# Altium schematic symbol library SCH - MCU - STM32 - ST MICROELECTRONICS STM32F446M(C-E)YX WLCSP81.SchLib: 1 symbol
Pins are listed as number, name and electrical type; pins without a type are passive.

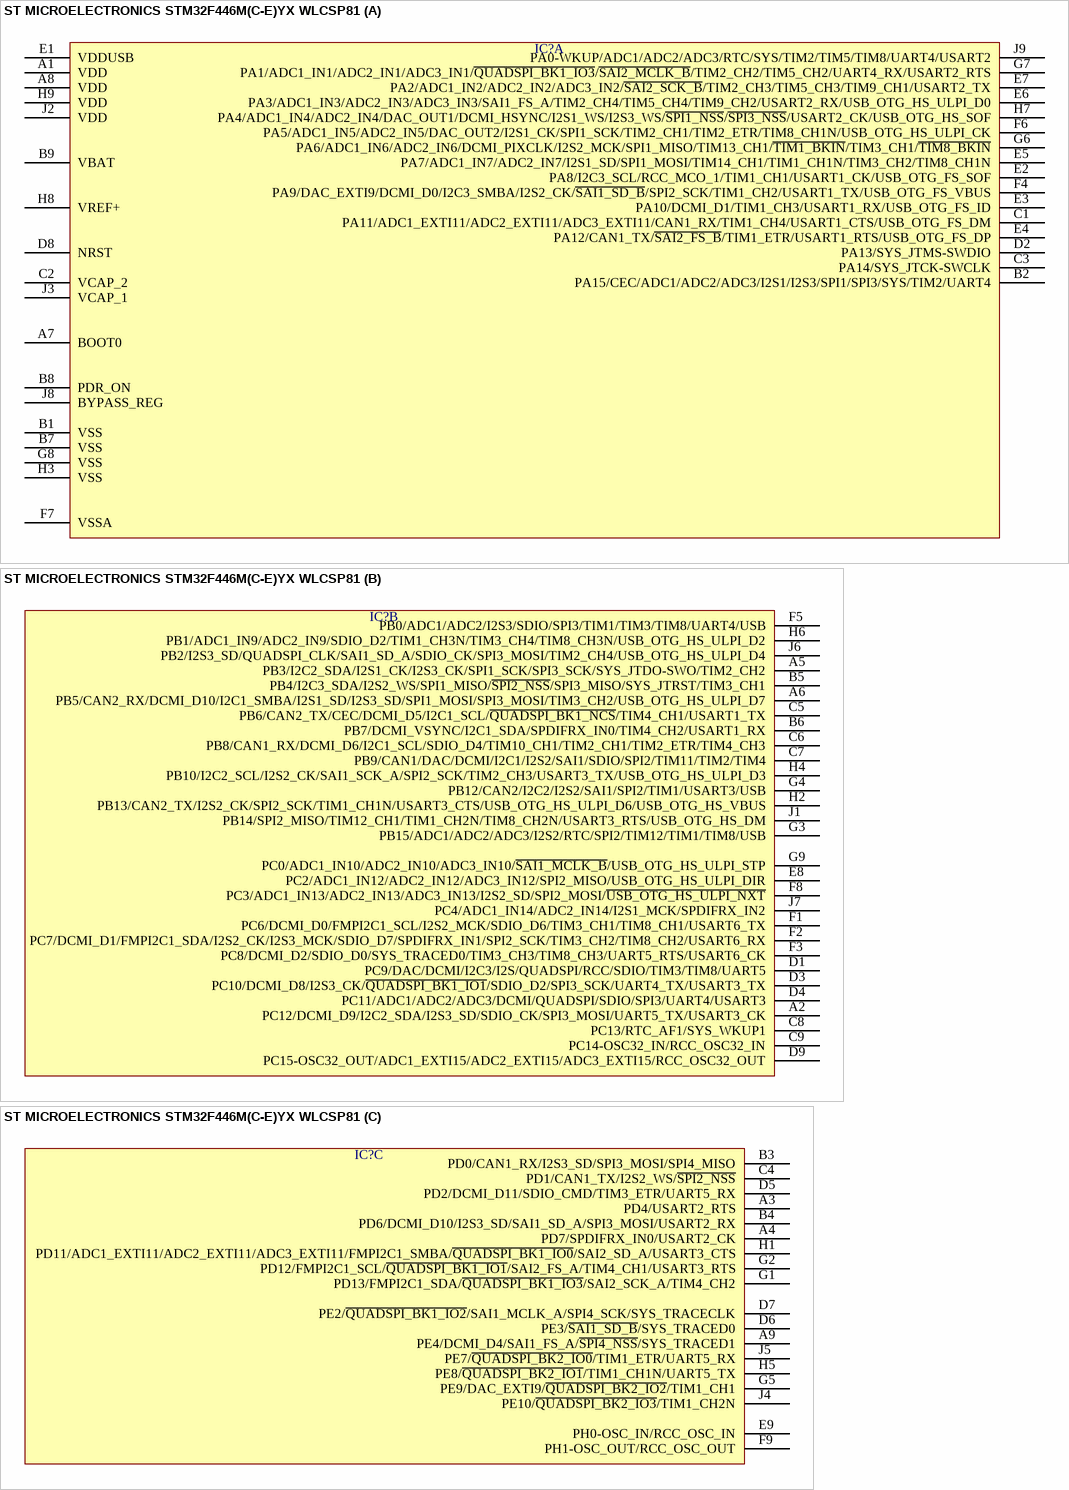
[diagram p0: symbol ST MICROELECTRONICS STM32F446M(C-E)YX WLCSP81]

## ST MICROELECTRONICS STM32F446M(C-E)YX WLCSP81
designator IC?  (value not drawn)
part A pins: A1 VDD, A7 BOOT0, A8 VDD, B1 VSS, B2 PA15/CEC/ADC1/ADC2/ADC3/I2S1/I2S3/SPI1/SPI3/SYS/TIM2/UART4, B7 VSS, B8 PDR_ON, B9 VBAT, C1 PA11/ADC1_EXTI11/ADC2_EXTI11/ADC3_EXTI11/CAN1_RX/TIM1_CH4/USART1_CTS/USB_OTG_FS_DM, C2 VCAP_2, C3 PA14/SYS_JTCK-SWCLK, D2 PA13/SYS_JTMS-SWDIO, D8 NRST, E1 VDDUSB, E2 PA8/I2C3_SCL/RCC_MCO_1/TIM1_CH1/USART1_CK/USB_OTG_FS_SOF, E3 PA10/DCMI_D1/TIM1_CH3/USART1_RX/USB_OTG_FS_ID, E4 PA12/CAN1_TX/~{SAI2_FS_B}/TIM1_ETR/USART1_RTS/USB_OTG_FS_DP, E5 PA7/ADC1_IN7/ADC2_IN7/I2S1_SD/SPI1_MOSI/TIM14_CH1/TIM1_CH1N/TIM3_CH2/TIM8_CH1N, E6 PA3/ADC1_IN3/ADC2_IN3/ADC3_IN3/SAI1_FS_A/TIM2_CH4/TIM5_CH4/TIM9_CH2/USART2_RX/USB_OTG_HS_ULPI_D0, E7 PA2/ADC1_IN2/ADC2_IN2/ADC3_IN2/~{SAI2_SCK_B}/TIM2_CH3/TIM5_CH3/TIM9_CH1/USART2_TX, F4 PA9/DAC_EXTI9/DCMI_D0/I2C3_SMBA/I2S2_CK/~{SAI1_SD_B}/SPI2_SCK/TIM1_CH2/USART1_TX/USB_OTG_FS_VBUS, F6 PA5/ADC1_IN5/ADC2_IN5/DAC_OUT2/I2S1_CK/SPI1_SCK/TIM2_CH1/TIM2_ETR/TIM8_CH1N/USB_OTG_HS_ULPI_CK, F7 VSSA, G6 PA6/ADC1_IN6/ADC2_IN6/DCMI_PIXCLK/I2S2_MCK/SPI1_MISO/TIM13_CH1/~{TIM1_BKIN}/TIM3_CH1/~{TIM8_BKIN}, G7 PA1/ADC1_IN1/ADC2_IN1/ADC3_IN1/~{QUADSPI_BK1_IO3}/~{SAI2_MCLK_B}/TIM2_CH2/TIM5_CH2/UART4_RX/USART2_RTS, G8 VSS, H3 VSS, H7 PA4/ADC1_IN4/ADC2_IN4/DAC_OUT1/DCMI_HSYNC/I2S1_WS/I2S3_WS/~{SPI1_NSS}/~{SPI3_NSS}/USART2_CK/USB_OTG_HS_SOF, H8 VREF+, H9 VDD, J2 VDD, J3 VCAP_1, J8 BYPASS_REG, J9 PA0-WKUP/ADC1/ADC2/ADC3/RTC/SYS/TIM2/TIM5/TIM8/UART4/USART2
part B pins: A2 PC12/DCMI_D9/I2C2_SDA/I2S3_SD/SDIO_CK/SPI3_MOSI/UART5_TX/USART3_CK, A5 PB3/I2C2_SDA/I2S1_CK/I2S3_CK/SPI1_SCK/SPI3_SCK/SYS_JTDO-SWO/TIM2_CH2, A6 PB5/CAN2_RX/DCMI_D10/I2C1_SMBA/I2S1_SD/I2S3_SD/SPI1_MOSI/SPI3_MOSI/TIM3_CH2/USB_OTG_HS_ULPI_D7, B5 PB4/I2C3_SDA/I2S2_WS/SPI1_MISO/~{SPI2_NSS}/SPI3_MISO/SYS_JTRST/TIM3_CH1, B6 PB7/DCMI_VSYNC/I2C1_SDA/SPDIFRX_IN0/TIM4_CH2/USART1_RX, C5 PB6/CAN2_TX/CEC/DCMI_D5/I2C1_SCL/~{QUADSPI_BK1_NCS}/TIM4_CH1/USART1_TX, C6 PB8/CAN1_RX/DCMI_D6/I2C1_SCL/SDIO_D4/TIM10_CH1/TIM2_CH1/TIM2_ETR/TIM4_CH3, C7 PB9/CAN1/DAC/DCMI/I2C1/I2S2/SAI1/SDIO/SPI2/TIM11/TIM2/TIM4, C8 PC13/RTC_AF1/SYS_WKUP1, C9 PC14-OSC32_IN/RCC_OSC32_IN, D1 PC9/DAC/DCMI/I2C3/I2S/QUADSPI/RCC/SDIO/TIM3/TIM8/UART5, D3 PC10/DCMI_D8/I2S3_CK/~{QUADSPI_BK1_IO1}/SDIO_D2/SPI3_SCK/UART4_TX/USART3_TX, D4 PC11/ADC1/ADC2/ADC3/DCMI/QUADSPI/SDIO/SPI3/UART4/USART3, D9 PC15-OSC32_OUT/ADC1_EXTI15/ADC2_EXTI15/ADC3_EXTI15/RCC_OSC32_OUT, E8 PC2/ADC1_IN12/ADC2_IN12/ADC3_IN12/SPI2_MISO/USB_OTG_HS_ULPI_DIR, F1 PC6/DCMI_D0/FMPI2C1_SCL/I2S2_MCK/SDIO_D6/TIM3_CH1/TIM8_CH1/USART6_TX, F2 PC7/DCMI_D1/FMPI2C1_SDA/I2S2_CK/I2S3_MCK/SDIO_D7/SPDIFRX_IN1/SPI2_SCK/TIM3_CH2/TIM8_CH2/USART6_RX, F3 PC8/DCMI_D2/SDIO_D0/SYS_TRACED0/TIM3_CH3/TIM8_CH3/UART5_RTS/USART6_CK, F5 PB0/ADC1/ADC2/I2S3/SDIO/SPI3/TIM1/TIM3/TIM8/UART4/USB, F8 PC3/ADC1_IN13/ADC2_IN13/ADC3_IN13/I2S2_SD/SPI2_MOSI/~{USB_OTG_HS_ULPI_NXT}, G3 PB15/ADC1/ADC2/ADC3/I2S2/RTC/SPI2/TIM12/TIM1/TIM8/USB, G4 PB12/CAN2/I2C2/I2S2/SAI1/SPI2/TIM1/USART3/USB, G9 PC0/ADC1_IN10/ADC2_IN10/ADC3_IN10/~{SAI1_MCLK_B}/USB_OTG_HS_ULPI_STP, H2 PB13/CAN2_TX/I2S2_CK/SPI2_SCK/TIM1_CH1N/USART3_CTS/USB_OTG_HS_ULPI_D6/USB_OTG_HS_VBUS, H4 PB10/I2C2_SCL/I2S2_CK/SAI1_SCK_A/SPI2_SCK/TIM2_CH3/USART3_TX/USB_OTG_HS_ULPI_D3, H6 PB1/ADC1_IN9/ADC2_IN9/SDIO_D2/TIM1_CH3N/TIM3_CH4/TIM8_CH3N/USB_OTG_HS_ULPI_D2, J1 PB14/SPI2_MISO/TIM12_CH1/TIM1_CH2N/TIM8_CH2N/USART3_RTS/USB_OTG_HS_DM, J6 PB2/I2S3_SD/QUADSPI_CLK/SAI1_SD_A/SDIO_CK/SPI3_MOSI/TIM2_CH4/USB_OTG_HS_ULPI_D4, J7 PC4/ADC1_IN14/ADC2_IN14/I2S1_MCK/SPDIFRX_IN2
part C pins: A3 PD4/USART2_RTS, A4 PD7/SPDIFRX_IN0/USART2_CK, A9 PE4/DCMI_D4/SAI1_FS_A/~{SPI4_NSS}/SYS_TRACED1, B3 PD0/CAN1_RX/I2S3_SD/SPI3_MOSI/SPI4_MISO, B4 PD6/DCMI_D10/I2S3_SD/SAI1_SD_A/SPI3_MOSI/USART2_RX, C4 PD1/CAN1_TX/I2S2_WS/~{SPI2_NSS}, D5 PD2/DCMI_D11/SDIO_CMD/TIM3_ETR/UART5_RX, D6 PE3/~{SAI1_SD_B}/SYS_TRACED0, D7 PE2/~{QUADSPI_BK1_IO2}/SAI1_MCLK_A/SPI4_SCK/SYS_TRACECLK, E9 PH0-OSC_IN/RCC_OSC_IN, F9 PH1-OSC_OUT/RCC_OSC_OUT, G1 PD13/FMPI2C1_SDA/~{QUADSPI_BK1_IO3}/SAI2_SCK_A/TIM4_CH2, G2 PD12/FMPI2C1_SCL/~{QUADSPI_BK1_IO1}/SAI2_FS_A/TIM4_CH1/USART3_RTS, G5 PE9/DAC_EXTI9/~{QUADSPI_BK2_IO2}/TIM1_CH1, H1 PD11/ADC1_EXTI11/ADC2_EXTI11/ADC3_EXTI11/FMPI2C1_SMBA/~{QUADSPI_BK1_IO0}/SAI2_SD_A/USART3_CTS, H5 PE8/~{QUADSPI_BK2_IO1}/TIM1_CH1N/UART5_TX, J4 PE10/~{QUADSPI_BK2_IO3}/TIM1_CH2N, J5 PE7/~{QUADSPI_BK2_IO0}/TIM1_ETR/UART5_RX